# Altium footprint library Resistors_SMD.PcbLib: 4 footprints
Each footprint in its own frame and in the unit in brackets; x right, y up, seen from the top. Pads: shape width x height; smd on the part's side, far side on the other; paste and mask are expansions set on the pad; w line width, h text height; cw(c..) or ccw(c..) is an arc to the next point about the centre after c.
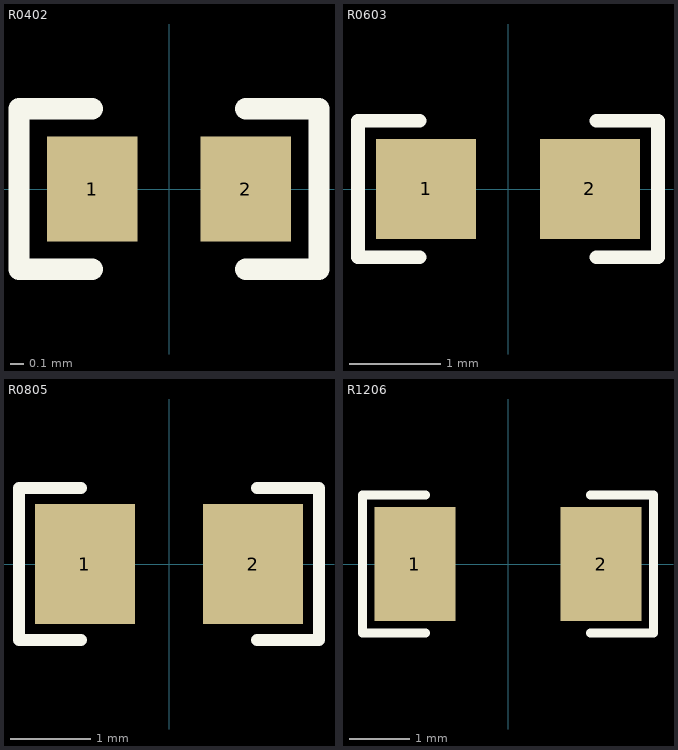
[diagram p0: the footprints below, top view; thin cyan lines are the x and y axes]

## R0402 [mm] "Chip Resistor, Body 1.0x0.5mm, IPC Low Density"
height 0.4
pads (2):
  rect 0.65x0.75 smd: 1(-0.55,0) 2(0.55,0)
Top Overlay:
  lines w0.152: -0.55,-0.575 -1.075,-0.575 -1.075,0.575 -0.55,0.575 ; 0.55,-0.575 1.075,-0.575 1.075,0.575 0.55,0.575
3D body: height 0.4, standoff 0, extent -0.525,-0.275 -0.3,0.275
3D body: height 0.4, standoff 0, extent -0.3,-0.275 0.3,0.275
3D body: height 0.4, standoff 0, extent 0.3,-0.275 0.525,0.275

## R0603 [mm] "Chip Resistor, Body 1.6x0.8mm, IPC Low Density"
height 0.6
pads (2):
  rect 1.1x1.1 smd: 1(-0.9,0) 2(0.9,0)
Top Overlay:
  lines w0.152: -0.975,-0.75 -1.65,-0.75 -1.65,0.75 -0.975,0.75 ; 0.975,-0.75 1.65,-0.75 1.65,0.75 0.975,0.75
3D body: height 0.6, standoff 0, extent -0.849,-0.474 -0.58,0.475
3D body: height 0.6, standoff 0, extent -0.58,-0.474 0.581,0.475
3D body: height 0.6, standoff 0, extent 0.581,-0.474 0.85,0.475

## R0805 [mm] "Chip Resistor, Body 2.0x1.3mm, IPC Low Density"
height 0.7
pads (2):
  rect 1.25x1.5 smd: 1(-1.05,0) 2(1.05,0)
Top Overlay:
  lines w0.152: -1.1,-0.95 -1.875,-0.95 -1.875,0.95 -1.1,0.95 ; 1.1,-0.95 1.875,-0.95 1.875,0.95 1.1,0.95
3D body: height 0.7, standoff 0, extent -1.1,-0.675 -0.68,0.675
3D body: height 0.7, standoff 0, extent -0.68,-0.675 0.68,0.675
3D body: height 0.7, standoff 0, extent 0.68,-0.675 1.1,0.675

## R1206 [mm] "Chip Resistor, Body 3.2x1.6mm, IPC Low Density"
height 0.75
pads (2):
  rect 1.35x1.9 smd: 1(-1.55,0) 2(1.55,0)
Top Overlay:
  lines w0.152: -1.375,-1.15 -2.425,-1.15 -2.425,1.15 -1.375,1.15 ; 1.375,-1.15 2.425,-1.15 2.425,1.15 1.375,1.15
3D body: height 0.75, standoff 0, extent -1.674,-0.874 -1.18,0.875
3D body: height 0.75, standoff 0, extent -1.18,-0.874 1.181,0.875
3D body: height 0.75, standoff 0, extent 1.181,-0.874 1.675,0.875